# Altium schematic symbol library Stm32_Relay.SchLib: 1 symbol
Pins are listed as number, name and electrical type; pins without a type are passive.

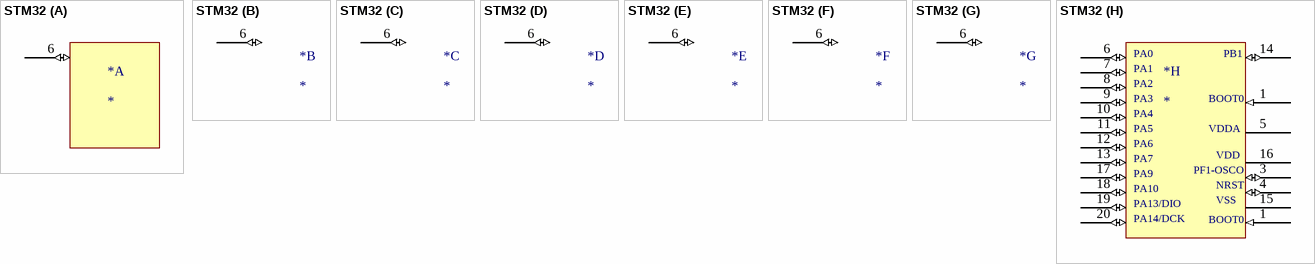
[diagram p0: symbol STM32]

## STM32
designator *
pins on every part: 6 PA0 (io)
part H pins: 1 BOOT0 (in), 1 BOOT0 (in), 3 PF1-OSCO (io), 4 NRST (io), 5 VDDA (power), 7 PA1 (io), 8 PA2 (io), 9 PA3 (io), 10 PA4 (io), 11 PA5 (io), 12 PA6 (io), 13 PA7 (io), 14 PB1 (io), 15 VSS (power), 16 VDD (power), 17 PA9 (io), 18 PA10 (io), 19 PA13/DIO (io), 20 PA14/DCK (io)